# EAGLE library part NC7NZ34 (library fairchild-semi)
Buffer/Line Driver Non-Inverting
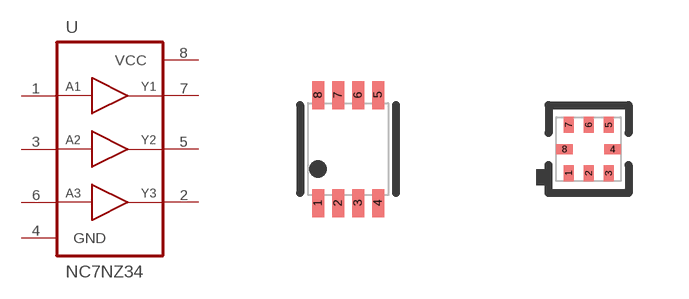
[diagram p5: symbol with the pads of US8; footprints US8, UPAK8]

Designator prefix U

## NC7NZ34K8X  [US8]
1  A1  in
2  Y3  out
3  A2  in
4  GND  pwr
5  Y2  out
6  A3  in
7  Y1  out
8  VCC  pwr

## NC7NZ34L8X  [UPAK8]
1  Y1  out
2  A3  in
3  Y2  out
4  GND  pwr
5  A2  in
6  Y3  out
7  A1  in
8  VCC  pwr

## Footprint US8 (pad centres in mm)
8-Lead US8 3.1mm Wide, 0.5mm Pitch JEDEC MO-187, Variation CA , Package Number MAB08A
smd 0.3 x 0.7: 1 -0.75,-1.35; 2 -0.25,-1.35; 3 0.25,-1.35; 4 0.75,-1.35; 5 0.75,1.35; 6 0.25,1.35; 7 -0.25,1.35; 8 -0.75,1.35

## Footprint UPAK8 (pad centres in mm)
MicroPak-8 0.5mm pitch, 1.6mm wide body, JDEC MO-255 VARIATION UAAD
smd 0.25 x 0.4: 1 -0.5,-0.605; 2 0,-0.605; 3 0.5,-0.605; 5 0.5,0.605; 6 0,0.605; 7 -0.5,0.605
smd 0.4 x 0.25: 4 0.6,0; 8 -0.6,0